# Altium schematic symbol library ISO1050.SchLib: 1 symbol
Pins are listed as number, name and electrical type; pins without a type are passive.

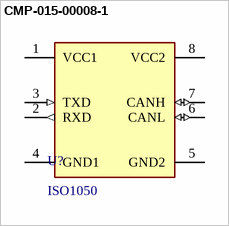
[diagram p0: symbol CMP-015-00008-1]

## CMP-015-00008-1
designator U?, comment ISO1050
IC TXRX CAN 5V 8SOP
footprint DUB0008A_M (SOP, 8-Leads, Body 6.7x9.6mm, Pitch 2.54mm, IPC Low Density)
pins: 1 VCC1 (power), 2 RXD (out), 3 TXD (in), 4 GND1 (power), 5 GND2 (power), 6 CANL (io), 7 CANH (io), 8 VCC2 (power)